# EAGLE library part 00SPEEDY_EE25/13/7_THT_H_10PIN (library Wurth Electronics Midcom Inc V1-0)
Package Style: Speedy EE25/13/7 Mounting: THT Pins: 10 pins Bobbin: 070-2607 Best pinouts for production vary per application. Please contact Wurth Electronics Midcom, Inc. for assistance with your custom design. Website: Wurth Electronics Midcom <http://www.we-online.com/midcom> Contact us Wurth Electronics Midcom, Inc. 121 Airport Dr. Watertown, SD 57201 Phone: (605) 886-4385 Fax: (605) 886-4486 E-Mail: midcom@we-online.com
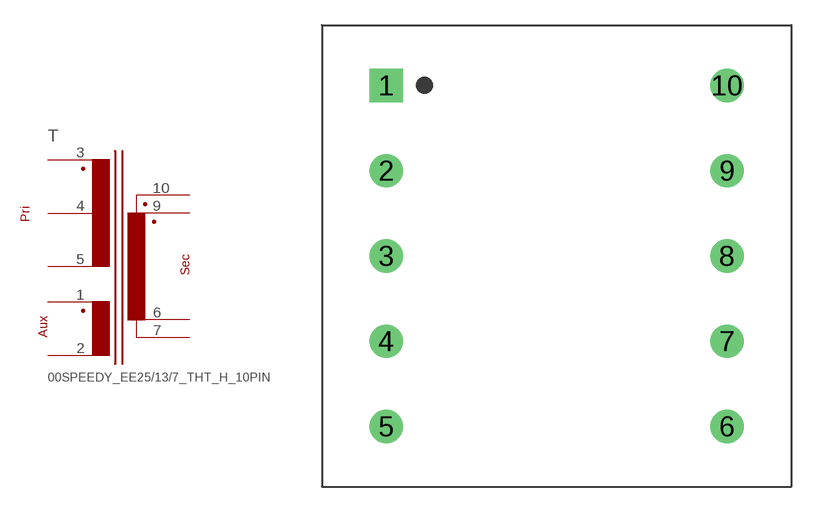
[diagram p110: symbol with the pads of 00SPEEDY_EE25/13/7_THT_H_10PIN; footprint 00SPEEDY_EE25/13/7_THT_H_10PIN]

Designator prefix T

## 00SPEEDY_EE25/13/7_THT_H_10PIN  [00SPEEDY_EE25/13/7_THT_H_10PIN]
1  4  pas
2  5  pas
3  1  pas
4  2  pas
5  3  pas
6  9  pas
7  6  pas
9  8  pas
10  7  pas

## Footprint 00SPEEDY_EE25/13/7_THT_H_10PIN (pad centres in mm)
Package Style: Speedy EE25/13/7 Mounting: THT Pins: 10 pins Bobbin: 070-2607
drill 1.321 square: 1 -10.16,10.16
drill 1.321 round: 2 -10.16,5.08; 3 -10.16,0; 4 -10.16,-5.08; 5 -10.16,-10.16; 6 10.16,-10.16; 7 10.16,-5.08; 8 10.16,0; 9 10.16,5.08; 10 10.16,10.16